# EAGLE library part SSW-143-02-S-T (library con-samtec)
THROUGH-HOLE .025" SQ POST SOCKET Source: Samtec SSW.pdf
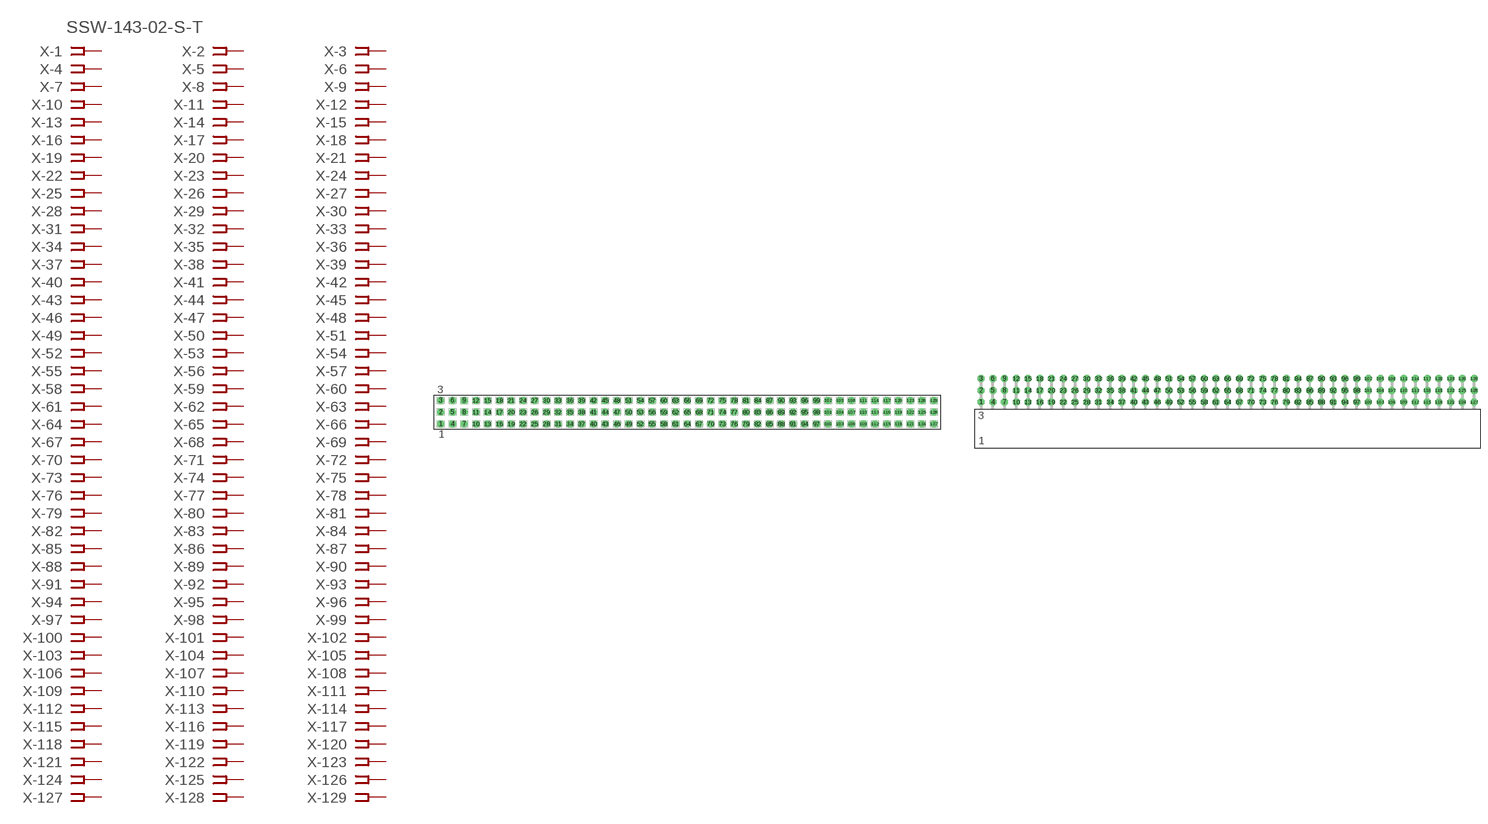
[diagram p13: symbol with the pads of SSW-143-02-S-T; footprints SSW-143-02-S-T, SSW-143-02-S-T-RA]

Designator prefix X; gates -1=FPINV -2=FPIN -3=FPIN -4=FPIN -5=FPIN -6=FPIN -7=FPIN -8=FPIN -9=FPIN -10=FPIN -11=FPIN -12=FPIN -13=FPIN -14=FPIN -15=FPIN -16=FPIN -17=FPIN -18=FPIN -19=FPIN -20=FPIN -21=FPIN -22=FPIN -23=FPIN -24=FPIN -25=FPIN -26=FPIN -27=FPIN -28=FPIN -29=FPIN -30=FPIN -31=FPIN -32=FPIN -33=FPIN -34=FPIN -35=FPIN -36=FPIN -37=FPIN -38=FPIN -39=FPIN -40=FPIN -41=FPIN -42=FPIN -43=FPIN -44=FPIN -45=FPIN -46=FPIN -47=FPIN -48=FPIN -49=FPIN -50=FPIN -51=FPIN -52=FPIN -53=FPIN -54=FPIN -55=FPIN -56=FPIN -57=FPIN -58=FPIN -59=FPIN -60=FPIN -61=FPIN -62=FPIN -63=FPIN -64=FPIN -65=FPIN -66=FPIN -67=FPIN -68=FPIN -69=FPIN -70=FPIN -71=FPIN -72=FPIN -73=FPIN -74=FPIN -75=FPIN -76=FPIN -77=FPIN -78=FPIN -79=FPIN -80=FPIN -81=FPIN -82=FPIN -83=FPIN -84=FPIN -85=FPIN -86=FPIN -87=FPIN -88=FPIN -89=FPIN -90=FPIN -91=FPIN -92=FPIN -93=FPIN -94=FPIN -95=FPIN -96=FPIN -97=FPIN -98=FPIN -99=FPIN -100=FPIN -101=FPIN -102=FPIN -103=FPIN -104=FPIN -105=FPIN -106=FPIN -107=FPIN -108=FPIN -109=FPIN -110=FPIN -111=FPIN -112=FPIN -113=FPIN -114=FPIN -115=FPIN -116=FPIN -117=FPIN -118=FPIN -119=FPIN -120=FPIN -121=FPIN -122=FPIN -123=FPIN -124=FPIN -125=FPIN -126=FPIN -127=FPIN -128=FPIN -129=FPIN

## SSW-143-02-S-T  [SSW-143-02-S-T]
1  -1:1  pas
2  -2:1  pas
3  -3:1  pas
4  -4:1  pas
5  -5:1  pas
6  -6:1  pas
7  -7:1  pas
8  -8:1  pas
9  -9:1  pas
10  -10:1  pas
11  -11:1  pas
12  -12:1  pas
13  -13:1  pas
14  -14:1  pas
15  -15:1  pas
16  -16:1  pas
17  -17:1  pas
18  -18:1  pas
19  -19:1  pas
20  -20:1  pas
21  -21:1  pas
22  -22:1  pas
23  -23:1  pas
24  -24:1  pas
25  -25:1  pas
26  -26:1  pas
27  -27:1  pas
28  -28:1  pas
29  -29:1  pas
30  -30:1  pas
31  -31:1  pas
32  -32:1  pas
33  -33:1  pas
34  -34:1  pas
35  -35:1  pas
36  -36:1  pas
37  -37:1  pas
38  -38:1  pas
39  -39:1  pas
40  -40:1  pas
41  -41:1  pas
42  -42:1  pas
43  -43:1  pas
44  -44:1  pas
45  -45:1  pas
46  -46:1  pas
47  -47:1  pas
48  -48:1  pas
49  -49:1  pas
50  -50:1  pas
51  -51:1  pas
52  -52:1  pas
53  -53:1  pas
54  -54:1  pas
55  -55:1  pas
56  -56:1  pas
57  -57:1  pas
58  -58:1  pas
59  -59:1  pas
60  -60:1  pas
61  -61:1  pas
62  -62:1  pas
63  -63:1  pas
64  -64:1  pas
65  -65:1  pas
66  -66:1  pas
67  -67:1  pas
68  -68:1  pas
69  -69:1  pas
70  -70:1  pas
71  -71:1  pas
72  -72:1  pas
73  -73:1  pas
74  -74:1  pas
75  -75:1  pas
76  -76:1  pas
77  -77:1  pas
78  -78:1  pas
79  -79:1  pas
80  -80:1  pas
81  -81:1  pas
82  -82:1  pas
83  -83:1  pas
84  -84:1  pas
85  -85:1  pas
86  -86:1  pas
87  -87:1  pas
88  -88:1  pas
89  -89:1  pas
90  -90:1  pas
91  -91:1  pas
92  -92:1  pas
93  -93:1  pas
94  -94:1  pas
95  -95:1  pas
96  -96:1  pas
97  -97:1  pas
98  -98:1  pas
99  -99:1  pas
100  -100:1  pas
101  -101:1  pas
102  -102:1  pas
103  -103:1  pas
104  -104:1  pas
105  -105:1  pas
106  -106:1  pas
107  -107:1  pas
108  -108:1  pas
109  -109:1  pas
110  -110:1  pas
111  -111:1  pas
112  -112:1  pas
113  -113:1  pas
114  -114:1  pas
115  -115:1  pas
116  -116:1  pas
117  -117:1  pas
118  -118:1  pas
119  -119:1  pas
120  -120:1  pas
121  -121:1  pas
122  -122:1  pas
123  -123:1  pas
124  -124:1  pas
125  -125:1  pas
126  -126:1  pas
127  -127:1  pas
128  -128:1  pas
129  -129:1  pas

## SSW-143-02-S-TRA  [SSW-143-02-S-T-RA]
Pads as for SSW-143-02-S-T

## Footprint SSW-143-02-S-T (pad centres in mm)
THROUGH-HOLE .025" SQ POST SOCKET Source: Samtec SSW.pdf
drill 1 pad 1.5 octagon: 1 -53.34,-2.54; 2 -53.34,0; 3 -53.34,2.54; 4 -50.8,-2.54; 5 -50.8,0; 6 -50.8,2.54; 7 -48.26,-2.54; 8 -48.26,0; 9 -48.26,2.54; 10 -45.72,-2.54; 11 -45.72,0; 12 -45.72,2.54; 13 -43.18,-2.54; 14 -43.18,0; 15 -43.18,2.54; 16 -40.64,-2.54; 17 -40.64,0; 18 -40.64,2.54; 19 -38.1,-2.54; 20 -38.1,0; 21 -38.1,2.54; 22 -35.56,-2.54; 23 -35.56,0; 24 -35.56,2.54; 25 -33.02,-2.54; 26 -33.02,0; 27 -33.02,2.54; 28 -30.48,-2.54; 29 -30.48,0; 30 -30.48,2.54; 31 -27.94,-2.54; 32 -27.94,0; 33 -27.94,2.54; 34 -25.4,-2.54; 35 -25.4,0; 36 -25.4,2.54; 37 -22.86,-2.54; 38 -22.86,0; 39 -22.86,2.54; 40 -20.32,-2.54; 41 -20.32,0; 42 -20.32,2.54; 43 -17.78,-2.54; 44 -17.78,0; 45 -17.78,2.54; 46 -15.24,-2.54; 47 -15.24,0; 48 -15.24,2.54; 49 -12.7,-2.54; 50 -12.7,0; 51 -12.7,2.54; 52 -10.16,-2.54; 53 -10.16,0; 54 -10.16,2.54; 55 -7.62,-2.54; 56 -7.62,0; 57 -7.62,2.54; 58 -5.08,-2.54; 59 -5.08,0; 60 -5.08,2.54; 61 -2.54,-2.54; 62 -2.54,0; 63 -2.54,2.54; 64 0,-2.54; 65 0,0; 66 0,2.54; 67 2.54,-2.54; 68 2.54,0; 69 2.54,2.54; 70 5.08,-2.54; 71 5.08,0; 72 5.08,2.54; 73 7.62,-2.54; 74 7.62,0; 75 7.62,2.54; 76 10.16,-2.54; 77 10.16,0; 78 10.16,2.54; 79 12.7,-2.54; 80 12.7,0; 81 12.7,2.54; 82 15.24,-2.54; 83 15.24,0; 84 15.24,2.54; 85 17.78,-2.54; 86 17.78,0; 87 17.78,2.54; 88 20.32,-2.54; 89 20.32,0; 90 20.32,2.54; 91 22.86,-2.54; 92 22.86,0; 93 22.86,2.54; 94 25.4,-2.54; 95 25.4,0; 96 25.4,2.54; 97 27.94,-2.54; 98 27.94,0; 99 27.94,2.54; 100 30.48,-2.54; 101 30.48,0; 102 30.48,2.54; 103 33.02,-2.54; 104 33.02,0; 105 33.02,2.54; 106 35.56,-2.54; 107 35.56,0; 108 35.56,2.54; 109 38.1,-2.54; 110 38.1,0; 111 38.1,2.54; 112 40.64,-2.54; 113 40.64,0; 114 40.64,2.54; 115 43.18,-2.54; 116 43.18,0; 117 43.18,2.54; 118 45.72,-2.54; 119 45.72,0; 120 45.72,2.54; 121 48.26,-2.54; 122 48.26,0; 123 48.26,2.54; 124 50.8,-2.54; 125 50.8,0; 126 50.8,2.54; 127 53.34,-2.54; 128 53.34,0; 129 53.34,2.54

## Footprint SSW-143-02-S-T-RA (pad centres in mm)
THROUGH-HOLE .025" SQ POST SOCKET Source: Samtec SSW.pdf
drill 1 pad 1.5 octagon: 1 -53.34,1.524; 2 -53.34,4.064; 3 -53.34,6.604; 4 -50.8,1.524; 5 -50.8,4.064; 6 -50.8,6.604; 7 -48.26,1.524; 8 -48.26,4.064; 9 -48.26,6.604; 10 -45.72,1.524; 11 -45.72,4.064; 12 -45.72,6.604; 13 -43.18,1.524; 14 -43.18,4.064; 15 -43.18,6.604; 16 -40.64,1.524; 17 -40.64,4.064; 18 -40.64,6.604; 19 -38.1,1.524; 20 -38.1,4.064; 21 -38.1,6.604; 22 -35.56,1.524; 23 -35.56,4.064; 24 -35.56,6.604; 25 -33.02,1.524; 26 -33.02,4.064; 27 -33.02,6.604; 28 -30.48,1.524; 29 -30.48,4.064; 30 -30.48,6.604; 31 -27.94,1.524; 32 -27.94,4.064; 33 -27.94,6.604; 34 -25.4,1.524; 35 -25.4,4.064; 36 -25.4,6.604; 37 -22.86,1.524; 38 -22.86,4.064; 39 -22.86,6.604; 40 -20.32,1.524; 41 -20.32,4.064; 42 -20.32,6.604; 43 -17.78,1.524; 44 -17.78,4.064; 45 -17.78,6.604; 46 -15.24,1.524; 47 -15.24,4.064; 48 -15.24,6.604; 49 -12.7,1.524; 50 -12.7,4.064; 51 -12.7,6.604; 52 -10.16,1.524; 53 -10.16,4.064; 54 -10.16,6.604; 55 -7.62,1.524; 56 -7.62,4.064; 57 -7.62,6.604; 58 -5.08,1.524; 59 -5.08,4.064; 60 -5.08,6.604; 61 -2.54,1.524; 62 -2.54,4.064; 63 -2.54,6.604; 64 0,1.524; 65 0,4.064; 66 0,6.604; 67 2.54,1.524; 68 2.54,4.064; 69 2.54,6.604; 70 5.08,1.524; 71 5.08,4.064; 72 5.08,6.604; 73 7.62,1.524; 74 7.62,4.064; 75 7.62,6.604; 76 10.16,1.524; 77 10.16,4.064; 78 10.16,6.604; 79 12.7,1.524; 80 12.7,4.064; 81 12.7,6.604; 82 15.24,1.524; 83 15.24,4.064; 84 15.24,6.604; 85 17.78,1.524; 86 17.78,4.064; 87 17.78,6.604; 88 20.32,1.524; 89 20.32,4.064; 90 20.32,6.604; 91 22.86,1.524; 92 22.86,4.064; 93 22.86,6.604; 94 25.4,1.524; 95 25.4,4.064; 96 25.4,6.604; 97 27.94,1.524; 98 27.94,4.064; 99 27.94,6.604; 100 30.48,1.524; 101 30.48,4.064; 102 30.48,6.604; 103 33.02,1.524; 104 33.02,4.064; 105 33.02,6.604; 106 35.56,1.524; 107 35.56,4.064; 108 35.56,6.604; 109 38.1,1.524; 110 38.1,4.064; 111 38.1,6.604; 112 40.64,1.524; 113 40.64,4.064; 114 40.64,6.604; 115 43.18,1.524; 116 43.18,4.064; 117 43.18,6.604; 118 45.72,1.524; 119 45.72,4.064; 120 45.72,6.604; 121 48.26,1.524; 122 48.26,4.064; 123 48.26,6.604; 124 50.8,1.524; 125 50.8,4.064; 126 50.8,6.604; 127 53.34,1.524; 128 53.34,4.064; 129 53.34,6.604